# Altium integrated library samtec.IntLib: 6 symbols
Pins are listed as number, name and electrical type; pins without a type are passive.

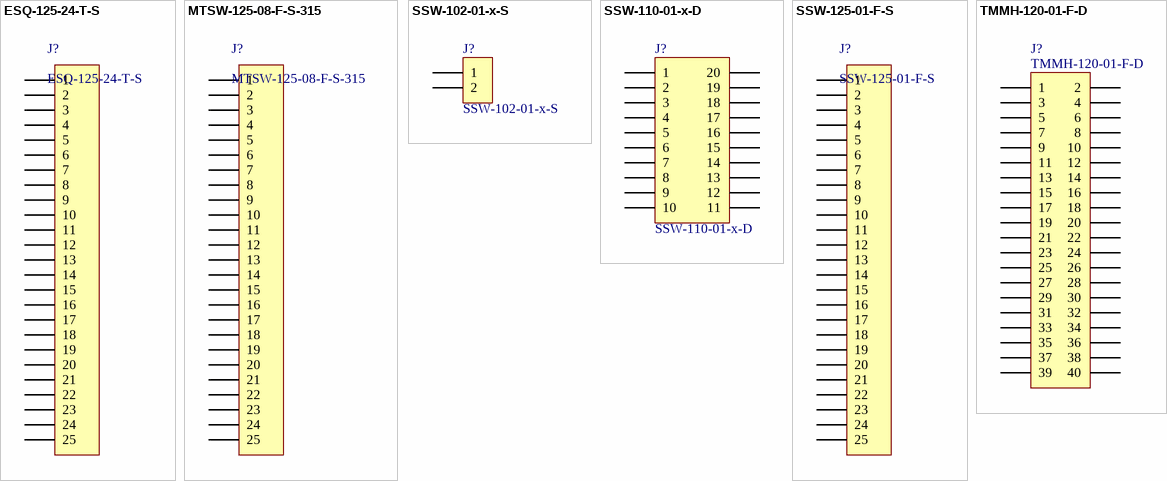
[diagram p0: symbols ESQ-125-24-T-S to TMMH-120-01-F-D]

## ESQ-125-24-T-S
designator J?
25 Pin Header, Single Row, 0.5"
footprint ESQ-125-24-T-S
pins: 1, 2, 3, 4, 5, 6, 7, 8, 9, 10, 11, 12, 13, 14, 15, 16, 17, 18, 19, 20, 21, 22, 23, 24, 25

## MTSW-125-08-F-S-315
designator J?
25 Pin Header, Single Row, 0.5"
footprint MTSW-125-08-F-S-315
pins: 1, 2, 3, 4, 5, 6, 7, 8, 9, 10, 11, 12, 13, 14, 15, 16, 17, 18, 19, 20, 21, 22, 23, 24, 25

## SSW-102-01-x-S
designator J?
2 Pin Header, Dual Row, 0.5"
footprint SSW-102-01-X-S
pins: 1, 2

## SSW-110-01-x-D
designator J?
20 Pin Header, Dual Row, 0.5"
footprint SSW-110-01-x-D
pins: 1, 2, 3, 4, 5, 6, 7, 8, 9, 10, 11, 12, 13, 14, 15, 16, 17, 18, 19, 20

## SSW-125-01-F-S
designator J?
25 Pin Header, Single Row, 0.5"
footprint SSW-125-01-F-S
pins: 1, 2, 3, 4, 5, 6, 7, 8, 9, 10, 11, 12, 13, 14, 15, 16, 17, 18, 19, 20, 21, 22, 23, 24, 25

## TMMH-120-01-F-D
designator J?
Header, 2x20-Pin, Dual row, Metric
footprint HDR2X20.Metric (Connector; Header; 20x2 Position)
pins: 1, 2, 3, 4, 5, 6, 7, 8, 9, 10, 11, 12, 13, 14, 15, 16, 17, 18, 19, 20, 21, 22, 23, 24, 25, 26, 27, 28, 29, 30, 31, 32, 33, 34, 35, 36, 37, 38, 39, 40